# EAGLE library part 4016 (library !stavebnice03)
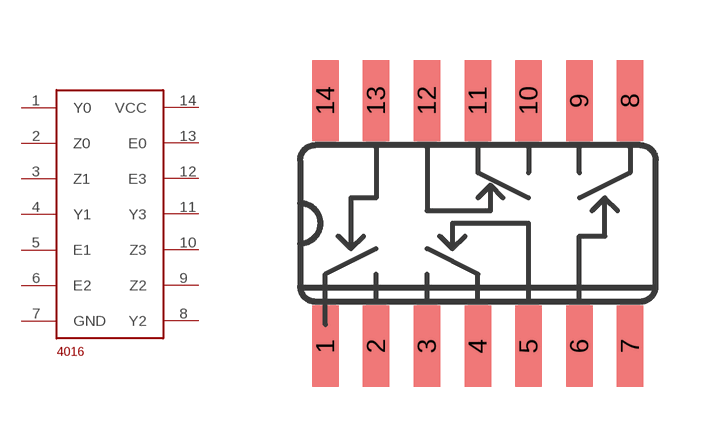
[diagram p2: symbol with the pads of 4016; footprint 4016]

Designator prefix -

## 4016  [4016]
1  Y0
2  Z0
3  Z1
4  Y1
5  E1
6  E2
7  GND
8  Y2
9  Z2
10  Z3
11  Y3
12  E3
13  E0
14  VCC

## Footprint 4016 (pad centres in mm)
smd 0.66 x 2.032: 1 -3.81,-3.073; 2 -2.54,-3.073; 3 -1.27,-3.073; 4 0,-3.073; 5 1.27,-3.073; 6 2.54,-3.073; 7 3.81,-3.073; 8 3.81,3.073; 9 2.54,3.073; 10 1.27,3.073; 11 0,3.073; 12 -1.27,3.073; 13 -2.54,3.073; 14 -3.81,3.073